# Altium schematic symbol library DZEN_K1A2.SchLib: 1 symbol
Pins are listed as number, name and electrical type; pins without a type are passive.

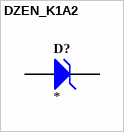
[diagram p0: symbol DZEN_K1A2]

## DZEN_K1A2
designator D?
pins: 1 K, 2 A